# EAGLE library part TDA8927TH (library Audio-Power-amlifier V.2.0)
Power stage 2 ´ 80 W class-D audio amplifier
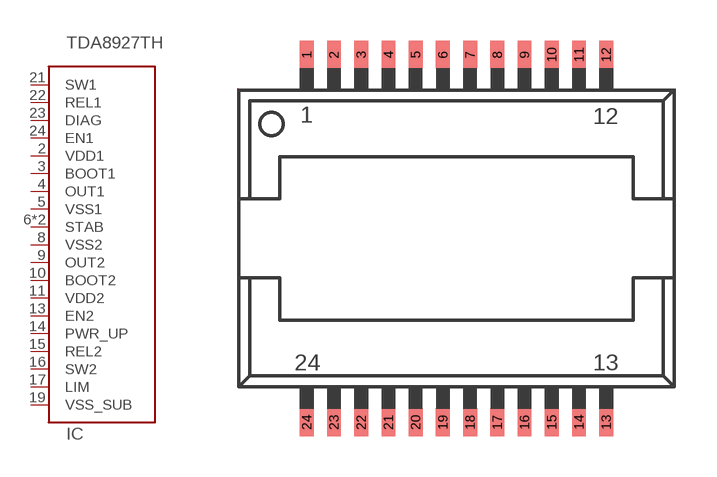
[diagram p217: symbol with the pads of SOT566-3; footprint SOT566-3]

Designator prefix IC

## TDA8927TH  [SOT566-3]
2  VDD1  pwr
3  BOOT1
4  OUT1  out
5  VSS1  pwr
6  STAB
7  STAB
8  VSS2  pwr
9  OUT2  out
10  BOOT2
11  VDD2  pwr
13  EN2  in
14  PWR_UP  in
15  REL2  out
16  SW2  in
17  LIM
19  VSS_SUB  pwr
21  SW1  in
22  REL1  out
23  DIAG  out
24  EN1  in

## Footprint SOT566-3 (pad centres in mm)
smd 0.508 x 1.016: 1 -5.5,6.75; 2 -4.5,6.75; 3 -3.5,6.75; 4 -2.5,6.75; 5 -1.5,6.75; 6 -0.5,6.75; 7 0.5,6.75; 8 1.5,6.75; 9 2.5,6.75; 10 3.5,6.75; 11 4.5,6.75; 12 5.5,6.75; 13 5.5,-6.75; 14 4.5,-6.75; 15 3.5,-6.75; 16 2.5,-6.75; 17 1.5,-6.75; 18 0.5,-6.75; 19 -0.5,-6.75; 20 -1.5,-6.75; 21 -2.5,-6.75; 22 -3.5,-6.75; 23 -4.5,-6.75; 24 -5.5,-6.75